# EAGLE library part MSGEQ7 (library MSGEQ7)
7-band graphic equalizer
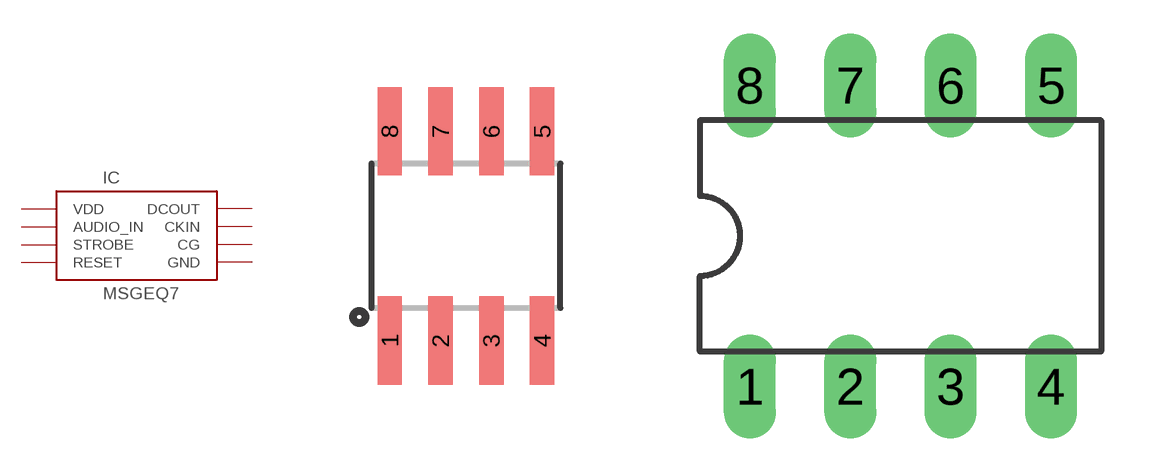
[diagram p0: symbol with the pads of SOIC8; footprints SOIC8, DIL-08]

Designator prefix IC

## MSGEQ7SOIC (Description: Seven Band Graphic Equalizer Display Filter; Digi-Key_Part_Number: 1568-1544-ND; Digi-Key_Purchase_URL: https://www.digikey.com/product-detail/en/sparkfun-electronics/DEV-13116/1568-1544-ND/5764478?utm_source=snapeda&utm_medium=aggregator&utm_campaign=symbol; MF: SparkFun Electronics; MP: MSGEQ7; Package: SOIC-8 Mixed Signal Integration)  [SOIC8]
1  VDD  in
2  GND
3  DCOUT
4  STROBE  in
5  AUDIO_IN  in
6  CG
7  RESET  in
8  CKIN

## MSGEQ7DIL (Description: Seven Band Graphic Equalizer Display Filter; Digi-Key_Part_Number: 1568-1544-ND; Digi-Key_Purchase_URL: https://www.digikey.com/product-detail/en/sparkfun-electronics/DEV-13116/1568-1544-ND/5764478?utm_source=snapeda&utm_medium=aggregator&utm_campaign=symbol; MF: SparkFun Electronics; MP: MSGEQ7; Package: SOIC-8 Mixed Signal Integration)  [DIL-08]
Pads as for SOIC8

## Footprint SOIC8 (pad centres in mm)
smd 0.61 x 2.21: 1 -1.905,-2.616; 2 -0.635,-2.616; 3 0.635,-2.616; 4 1.905,-2.616; 5 1.905,2.616; 6 0.635,2.616; 7 -0.635,2.616; 8 -1.905,2.616

## Footprint DIL-08 (pad centres in mm)
Dual In Line Package
drill 0.813 long: 1 -3.81,-3.81; 2 -1.27,-3.81; 3 1.27,-3.81; 4 3.81,-3.81; 5 3.81,3.81; 6 1.27,3.81; 7 -1.27,3.81; 8 -3.81,3.81